# Altium schematic symbol library HeadersPin_1rows_F_180.SchLib: 10 symbols
Pins are listed as number, name and electrical type; pins without a type are passive.

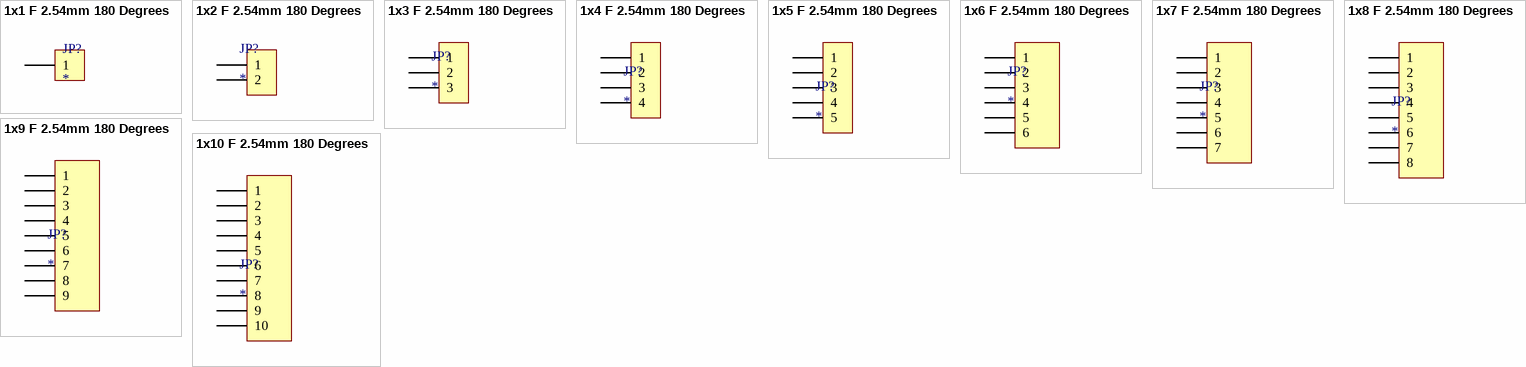
[diagram p0: symbols 1x1 F 2.54mm 180 Degrees to 1x10 F 2.54mm 180 Degrees]

## 1x1 F 2.54mm 180 Degrees
designator JP?
Designed by: ILKNUR
footprint 1X1 (F) 2.54MM 180 DEGRES
pins: 1

## 1x2 F 2.54mm 180 Degrees
designator JP?
Female, 2C, Straight, .100"CC; 3.20mm Tail, No Mt. 100u" Tin; PBT, Phos Bronze, 105 C; Manufacturer: Sullins; Manufacturer Part Number: PPTC021LFBN-RC; Designed by: ILKNUR; Supplier 1: Digikey; RoHS: Yes; Category: Connectors; Stock 1: 62939; Pricing 1: 1=0,33, 10=0,278, 100=0,2163, 1000=0,15447, 5000=0,1324, 10000=0,1261 (USD); Length: 5.58mm; Width: 2.5mm; Height: 8.5mm; Lead Free: 5697LeadFree; ComponentLink1URL: https://media.digikey.com/pdf/Data%20Sheets/Sullins%20PDFs/Female_Headers.100_DS.pdf?src-supplier=Digikey; ComponentLink1Description: https://media.digikey.com/pdf/Data%20Sheets/Sullins%20PDFs/Female_Headers.100_DS.pdf?src-supplier=Digikey; ComponentLink2URL: https://datasheet.octopart.com/PPTC021LFBN-RC-Sullins-datasheet-41308905.pdf?src-supplier=Future+Electronics; ComponentLink2Description: https://datasheet.octopart.com/PPTC021LFBN-RC-Sullins-datasheet-41308905.pdf?src-supplier=Future+Electronics; ComponentLink3URL: http://www.sullinscorp.com/catalogs/78_Page80-81_HEADER_.100_2.54mm_FEMALE.pdf?src-supplier=Future+Electronics; ComponentLink3Description: http://www.sullinscorp.com/catalogs/78_Page80-81_HEADER_.100_2.54mm_FEMALE.pdf?src-supplier=Future+Electronics; Supplier Part Number 1: S7000-ND
footprint 1x2 (F) 2.54MM 180 DEGRES
pins: 1, 2

## 1x3 F 2.54mm 180 Degrees
designator JP?
3 Position Total Single Row 2.54 mm Pitch Straight Female Header; Manufacturer: Sullins; Manufacturer Part Number: PPPC031LFBN-RC; Designed by: ILKNUR; Supplier 1: Digikey; RoHS: Yes; Category: Connectors; Stock 1: 13477; Pricing 1: 1=0,38, 10=0,33, 100=0,2721, 500=0,2366, 1000=0,1952, 5000=0,17154, 10000=0,169 (USD); ComponentLink1URL: https://media.digikey.com/pdf/Data%20Sheets/Sullins%20PDFs/Female_Headers.100_DS.pdf?src-supplier=Digikey; ComponentLink1Description: https://media.digikey.com/pdf/Data%20Sheets/Sullins%20PDFs/Female_Headers.100_DS.pdf?src-supplier=Digikey; ComponentLink2URL: http://www.sullinscorp.com/catalogs/78_Page80-81_HEADER_.100_2.54mm_FEMALE.pdf?src-supplier=Future+Electronics; ComponentLink2Description: http://www.sullinscorp.com/catalogs/78_Page80-81_HEADER_.100_2.54mm_FEMALE.pdf?src-supplier=Future+Electronics; ComponentLink3URL: https://datasheet.octopart.com/PPPC031LFBN-RC-Sullins-datasheet-41308905.pdf?src-supplier=Future+Electronics; ComponentLink3Description: https://datasheet.octopart.com/PPPC031LFBN-RC-Sullins-datasheet-41308905.pdf?src-supplier=Future+Electronics; Supplier Part Number 1: S7036-ND
footprint 1x3 (F) 2.54mm 180 Degres
pins: 1, 2, 3

## 1x4 F 2.54mm 180 Degrees
designator JP?
Female, 4 C, Straight, .100"CC; 3.20mm Tail, No Mounting; PBT, Phos. Bronze, 105 C; Manufacturer: Sullins; Manufacturer Part Number: PPPC041LFBN-RC; Designed by: ILKNUR; Supplier 1: Digikey; RoHS: Yes; Category: Connectors; Stock 1: 21694; Pricing 1: 1=0,47, 10=0,411, 100=0,3391, 500=0,29484, 1000=0,24324, 5000=0,21376, 10000=0,2106 (USD); Contact Material: 150ConductorMaterial; Housing Material: 4239ConductorMaterial; Length: 10.7mm; Width: 2.5mm; Height: 8.5mm; Lead Free: 5697LeadFree; ComponentLink1URL: https://media.digikey.com/pdf/Data%20Sheets/Sullins%20PDFs/Female_Headers.100_DS.pdf?src-supplier=Digikey; ComponentLink1Description: https://media.digikey.com/pdf/Data%20Sheets/Sullins%20PDFs/Female_Headers.100_DS.pdf?src-supplier=Digikey; ComponentLink2URL: http://www.sullinscorp.com/catalogs/78_Page80-81_HEADER_.100_2.54mm_FEMALE.pdf?src-supplier=Future+Electronics; ComponentLink2Description: http://www.sullinscorp.com/catalogs/78_Page80-81_HEADER_.100_2.54mm_FEMALE.pdf?src-supplier=Future+Electronics; ComponentLink3URL: https://datasheet.octopart.com/PPPC041LFBN-RC-Sullins-datasheet-41308905.pdf?src-supplier=Future+Electronics; ComponentLink3Description: https://datasheet.octopart.com/PPPC041LFBN-RC-Sullins-datasheet-41308905.pdf?src-supplier=Future+Electronics; Supplier Part Number 1: S7037-ND
footprint 1X4 (F) 2.54mm 180 Degres
pins: 1, 2, 3, 4

## 1x5 F 2.54mm 180 Degrees
designator JP?
Female, 5C, Straight, .100"CC; 3.20mm Tail, No Mt. 100u" Tin; PBT, Phos Bronze, 105 C; Manufacturer: Sullins; Manufacturer Part Number: PPTC051LFBN-RC; Designed by: ILKNUR; Supplier 1: Digikey; RoHS: Yes; Category: Connectors; Stock 1: 31442; Pricing 1: 1=0,48, 10=0,416, 80=0,34325, 440=0,29848, 1000=0,24625, 5000=0,2164, 10000=0,2132 (USD); ComponentLink1URL: https://media.digikey.com/pdf/Data%20Sheets/Sullins%20PDFs/Female_Headers.100_DS.pdf?src-supplier=Digikey; ComponentLink1Description: https://media.digikey.com/pdf/Data%20Sheets/Sullins%20PDFs/Female_Headers.100_DS.pdf?src-supplier=Digikey; ComponentLink2URL: http://www.sullinscorp.com/catalogs/78_Page80-81_HEADER_.100_2.54mm_FEMALE.pdf?src-supplier=Future+Electronics; ComponentLink2Description: http://www.sullinscorp.com/catalogs/78_Page80-81_HEADER_.100_2.54mm_FEMALE.pdf?src-supplier=Future+Electronics; ComponentLink3URL: https://datasheet.octopart.com/PPTC051LFBN-RC-Sullins-datasheet-41308905.pdf?src-supplier=Future+Electronics; ComponentLink3Description: https://datasheet.octopart.com/PPTC051LFBN-RC-Sullins-datasheet-41308905.pdf?src-supplier=Future+Electronics; Supplier Part Number 1: S6103-ND
footprint 1X5 (F) 2.54MM 180 DEGRES
pins: 1, 2, 3, 4, 5

## 1x6 F 2.54mm 180 Degrees
designator JP?
Female, 6 C, Straight, .100"CC; 3.20mm Tail, No Mt. 100u" Tin; PBT, Phos Bronze, 105 C; Manufacturer: Sullins; Manufacturer Part Number: PPTC061LFBN-RC; Designed by: ILKNUR; Supplier 1: Digikey; RoHS: Yes; Category: Connectors; Stock 1: 23295; Pricing 1: 1=0,52, 10=0,454, 80=0,37463, 440=0,32577, 1000=0,26877, 5000=0,23619, 10000=0,2327 (USD); ComponentLink1URL: https://media.digikey.com/pdf/Data%20Sheets/Sullins%20PDFs/Female_Headers.100_DS.pdf?src-supplier=Digikey; ComponentLink1Description: https://media.digikey.com/pdf/Data%20Sheets/Sullins%20PDFs/Female_Headers.100_DS.pdf?src-supplier=Digikey; ComponentLink2URL: https://datasheet.octopart.com/PPTC061LFBN-RC-Sullins-datasheet-41308905.pdf?src-supplier=Future+Electronics; ComponentLink2Description: https://datasheet.octopart.com/PPTC061LFBN-RC-Sullins-datasheet-41308905.pdf?src-supplier=Future+Electronics; ComponentLink3URL: http://www.sullinscorp.com/catalogs/78_Page80-81_HEADER_.100_2.54mm_FEMALE.pdf?src-supplier=Future+Electronics; ComponentLink3Description: http://www.sullinscorp.com/catalogs/78_Page80-81_HEADER_.100_2.54mm_FEMALE.pdf?src-supplier=Future+Electronics; Supplier Part Number 1: S7004-ND
footprint 1X6 (F) 2.54MM 180 DEGRES
pins: 1, 2, 3, 4, 5, 6

## 1x7 F 2.54mm 180 Degrees
designator JP?
Female, 7C, Straight, .100"CC; 3.20mm Tail, No Mt. 100u" Tin; PBT, Phos Bronze, 105 C; Manufacturer: Sullins; Manufacturer Part Number: PPTC071LFBN-RC; Designed by: ILKNUR; Supplier 1: Digikey; RoHS: Yes; Category: Connectors; Stock 1: 16469; Pricing 1: 1=0,6, 10=0,52, 80=0,42913, 440=0,37309, 1000=0,30781, 5000=0,2705, 10000=0,2665 (USD); ComponentLink1URL: https://media.digikey.com/pdf/Data%20Sheets/Sullins%20PDFs/Female_Headers.100_DS.pdf?src-supplier=Digikey; ComponentLink1Description: https://media.digikey.com/pdf/Data%20Sheets/Sullins%20PDFs/Female_Headers.100_DS.pdf?src-supplier=Digikey; ComponentLink2URL: http://www.sullinscorp.com/catalogs/78_Page80-81_HEADER_.100_2.54mm_FEMALE.pdf?src-supplier=Future+Electronics; ComponentLink2Description: http://www.sullinscorp.com/catalogs/78_Page80-81_HEADER_.100_2.54mm_FEMALE.pdf?src-supplier=Future+Electronics; ComponentLink3URL: https://datasheet.octopart.com/PPTC071LFBN-RC-Sullins-datasheet-41308905.pdf?src-supplier=Future+Electronics; ComponentLink3Description: https://datasheet.octopart.com/PPTC071LFBN-RC-Sullins-datasheet-41308905.pdf?src-supplier=Future+Electronics; Supplier Part Number 1: S7005-ND
footprint 1X7 (F) 2.54MM 180 DEGRES
pins: 1, 2, 3, 4, 5, 6, 7

## 1x8 F 2.54mm 180 Degrees
designator JP?
Female, 8C, Straight, .100"CC; 3.20mm Tail, No Mt. 100u" Tin; PBT, Phos Bronze, 105 C; Manufacturer: Sullins; Manufacturer Part Number: PPTC081LFBN-RC; Designed by: ILKNUR; Supplier 1: Digikey; RoHS: Yes; Category: Connectors; Stock 1: 51670; Pricing 1: 1=0,66, 10=0,571, 400=0,42998, 800=0,36855, 1200=0,33783, 5200=0,29689, 10000=0,2925 (USD); Contact Material: 150ConductorMaterial; Housing Material: 4239ConductorMaterial; Length: 20.8mm; Width: 2.5mm; Height: 8.5mm; Lead Free: 5697LeadFree; ComponentLink1URL: https://media.digikey.com/pdf/Data%20Sheets/Sullins%20PDFs/Female_Headers.100_DS.pdf?src-supplier=Digikey; ComponentLink1Description: https://media.digikey.com/pdf/Data%20Sheets/Sullins%20PDFs/Female_Headers.100_DS.pdf?src-supplier=Digikey; ComponentLink2URL: https://datasheet.octopart.com/PPTC081LFBN-RC-Sullins-datasheet-41308905.pdf?src-supplier=Future+Electronics; ComponentLink2Description: https://datasheet.octopart.com/PPTC081LFBN-RC-Sullins-datasheet-41308905.pdf?src-supplier=Future+Electronics; ComponentLink3URL: http://www.sullinscorp.com/catalogs/78_Page80-81_HEADER_.100_2.54mm_FEMALE.pdf?src-supplier=Future+Electronics; ComponentLink3Description: http://www.sullinscorp.com/catalogs/78_Page80-81_HEADER_.100_2.54mm_FEMALE.pdf?src-supplier=Future+Electronics; Supplier Part Number 1: S7006-ND
footprint 1X8 (F) 2.54MM 180 DEGRES
pins: 1, 2, 3, 4, 5, 6, 7, 8

## 1x9 F 2.54mm 180 Degrees
designator JP?
Conn Header Female 9POS .1" Gold; Manufacturer: Sullins; Manufacturer Part Number: PPPC091LFBN-RC; Designed by: ILKNUR; Number of Positions: 9; Voltage Rating: 250V; Supplier 1: Digikey; RoHS: Yes; Category: Connectors; Stock 1: 14873; Pricing 1: 1=0,68, 10=0,571, 80=0,5125, 440=0,41932, 1000=0,37274, 5000=0,3328 (USD); Mount: Through Hole; Contact Material: Bronze; Housing Material: Plastic; Contact Finish - Mating: GOLD; Insulation Color: Black; Insulation Material: Polyester; Contact Shape: Square; Min Operating Temperature: -40°C; Max Operating Temperature: 105°C; Number of Rows: 1; Packaging: Tray; Termination: Solder; Contact Type: Female Socket; Series: -; Fastening Type: Pull; Connector Type: Header; Length: 23.4mm; Width: 2.5mm; Height: 8.5mm; Lead Free: Lead Free; RoHS Compliant: Yes; Flammability Rating: UL94 V-0; ComponentLink1URL: https://media.digikey.com/pdf/Data%20Sheets/Sullins%20PDFs/Female_Headers.100_DS.pdf?src-supplier=Digikey; ComponentLink1Description: https://media.digikey.com/pdf/Data%20Sheets/Sullins%20PDFs/Female_Headers.100_DS.pdf?src-supplier=Digikey; Supplier Part Number 1: S7042-ND
footprint 1X9 (F) 2.54MM 180 DEGRES
pins: 1, 2, 3, 4, 5, 6, 7, 8, 9

## 1x10 F 2.54mm 180 Degrees
designator JP?
10 Position Single Row 2.54 mm Pitch Vertical Through Hole Socket Header; Manufacturer: Sullins; Manufacturer Part Number: PPTC101LFBN-RC; Designed by: ILKNUR; Supplier 1: Digikey; RoHS: Yes; Category: Connectors; Stock 1: 17713; Pricing 1: 1=0,66, 10=0,557, 320=0,455, 640=0,4095, 960=0,364, 5120=0,325 (USD); ComponentLink1URL: https://media.digikey.com/pdf/Data%20Sheets/Sullins%20PDFs/Female_Headers.100_DS.pdf?src-supplier=Digikey; ComponentLink1Description: https://media.digikey.com/pdf/Data%20Sheets/Sullins%20PDFs/Female_Headers.100_DS.pdf?src-supplier=Digikey; Supplier Part Number 1: S7008-ND
footprint 1X10 (F) 2.54MM 180 DEGRES
pins: 1, 2, 3, 4, 5, 6, 7, 8, 9, 10